# EAGLE library part PHB_1MM27_2X06_* (library _hhn_con_pinhead_box_1mm27)
Pin Header Box-Type, 1.27mm/0.5"/50mil Pitch, 2x06 Circuits Note: see library description for an important note about THT-version
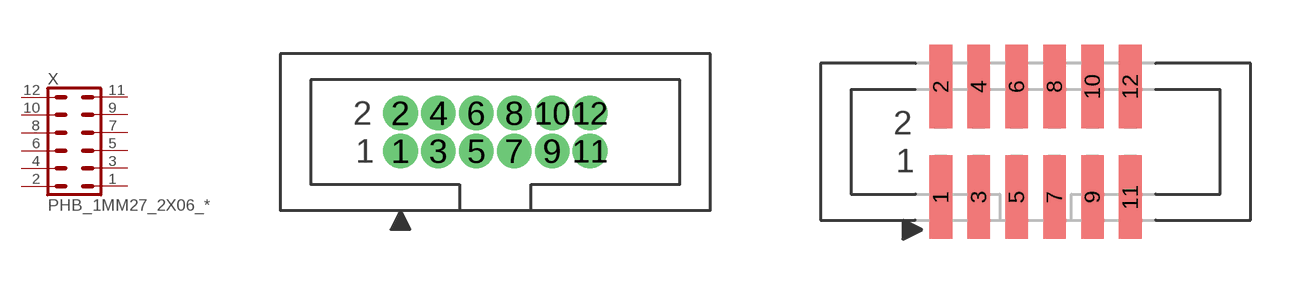
[diagram p17: symbol with the pads of PHB_1MM27_2X06_SNT; footprints PHB_1MM27_2X06_SNT, PHB_1MM27_2X06_SNS]

Designator prefix X

## PHB_1MM27_2X06_SNT  [PHB_1MM27_2X06_SNT]
1  1  pas
2  2  pas
3  3  pas
4  4  pas
5  5  pas
6  6  pas
7  7  pas
8  8  pas
9  9  pas
10  10  pas
11  11  pas
12  12  pas

## PHB_1MM27_2X06_SNS  [PHB_1MM27_2X06_SNS]
Pads as for PHB_1MM27_2X06_SNT

## Footprint PHB_1MM27_2X06_SNT (pad centres in mm)
Pin Header Box-Type, 1.27mm Pitch, 2x06 circuits, Straight, No Locking, THT Important Note regarding to THT-versions: see description of library
drill 0.65 round: 1 -3.175,-0.635; 2 -3.175,0.635; 3 -1.905,-0.635; 4 -1.905,0.635; 5 -0.635,-0.635; 6 -0.635,0.635; 7 0.635,-0.635; 8 0.635,0.635; 9 1.905,-0.635; 10 1.905,0.635; 11 3.175,-0.635; 12 3.175,0.635

## Footprint PHB_1MM27_2X06_SNS (pad centres in mm)
Pin Header Box-Type, 1.27mm Pitch, 2x06 circuits, Straight, No Locking, SMT
smd 0.76 x 2.8: 1 -3.175,-1.85; 2 -3.175,1.85; 3 -1.905,-1.85; 4 -1.905,1.85; 5 -0.635,-1.85; 6 -0.635,1.85; 7 0.635,-1.85; 8 0.635,1.85; 9 1.905,-1.85; 10 1.905,1.85; 11 3.175,-1.85; 12 3.175,1.85